# EAGLE library part BME688 (library BME688)
Gas sensor measuring relative humidity, barometric pressure, ambient temperature and gas (VOC)
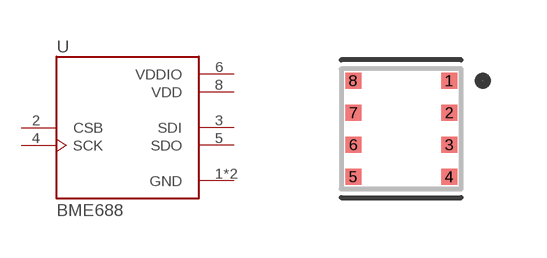
[diagram p0: symbol with the pads of IC_BME688; footprint IC_BME688]

Designator prefix U

## BME688 (MANUFACTURER: BOSCH; MAXIMUM_PACKAGE_HEIGHT: 1.0 mm; PARTREV: 1.0; STANDARD: Manufacturer recommendations)  [IC_BME688]
1  GND  pwr
2  CSB  in
3  SDI
4  SCK  in
5  SDO
6  VDDIO  pwr
7  GND  pwr
8  VDD  pwr

## Footprint IC_BME688 (pad centres in mm)
smd 0.4 x 0.4: 1 1.2,1.2; 2 1.2,0.4; 3 1.2,-0.4; 4 1.2,-1.2; 5 -1.2,-1.2; 6 -1.2,-0.4; 7 -1.2,0.4; 8 -1.2,1.2